# Altium integrated library U77A461M2081.IntLib: 1 symbol
Pins are listed as number, name and electrical type; pins without a type are passive.

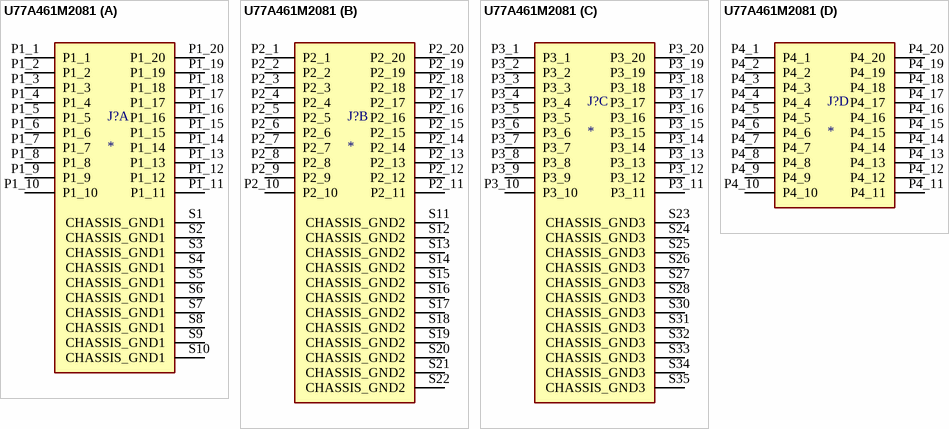
[diagram p0: symbol U77A461M2081]

## U77A461M2081
designator J?
MF: AMPHENOL ICC / FCI; MP: U77A461M2081; Package: None; Price: None; Value: *; Availability: Unavailable
footprint AMPHENOL_U77A461M2081
part A pins: P1_1, P1_2, P1_3, P1_4, P1_5, P1_6, P1_7, P1_8, P1_9, P1_10, P1_11, P1_12, P1_13, P1_14, P1_15, P1_16, P1_17, P1_18, P1_19, P1_20, S1 CHASSIS_GND1 (power), S2 CHASSIS_GND1 (power), S3 CHASSIS_GND1 (power), S4 CHASSIS_GND1 (power), S5 CHASSIS_GND1 (power), S6 CHASSIS_GND1 (power), S7 CHASSIS_GND1 (power), S8 CHASSIS_GND1 (power), S9 CHASSIS_GND1 (power), S10 CHASSIS_GND1 (power)
part B pins: P2_1, P2_2, P2_3, P2_4, P2_5, P2_6, P2_7, P2_8, P2_9, P2_10, P2_11, P2_12, P2_13, P2_14, P2_15, P2_16, P2_17, P2_18, P2_19, P2_20, S11 CHASSIS_GND2, S12 CHASSIS_GND2, S13 CHASSIS_GND2, S14 CHASSIS_GND2, S15 CHASSIS_GND2, S16 CHASSIS_GND2, S17 CHASSIS_GND2, S18 CHASSIS_GND2, S19 CHASSIS_GND2, S20 CHASSIS_GND2, S21 CHASSIS_GND2, S22 CHASSIS_GND2
part C pins: P3_1, P3_2, P3_3, P3_4, P3_5, P3_6, P3_7, P3_8, P3_9, P3_10, P3_11, P3_12, P3_13, P3_14, P3_15, P3_16, P3_17, P3_18, P3_19, P3_20, S23 CHASSIS_GND3, S24 CHASSIS_GND3, S25 CHASSIS_GND3, S26 CHASSIS_GND3, S27 CHASSIS_GND3, S28 CHASSIS_GND3, S30 CHASSIS_GND3, S31 CHASSIS_GND3, S32 CHASSIS_GND3, S33 CHASSIS_GND3, S34 CHASSIS_GND3, S35 CHASSIS_GND3
part D pins: P4_1, P4_2, P4_3, P4_4, P4_5, P4_6, P4_7, P4_8, P4_9, P4_10, P4_11, P4_12, P4_13, P4_14, P4_15, P4_16, P4_17, P4_18, P4_19, P4_20